# Altium schematic symbol library SCH - POWER - MODULE - A1215S-2WR2.SchLib: 1 symbol
Pins are listed as number, name and electrical type; pins without a type are passive.

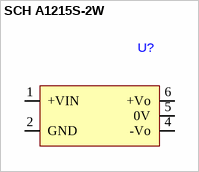
[diagram p0: symbol SCH A1215S-2W]

## SCH A1215S-2W
designator U?
pins: 1 +VIN, 2 GND, 4 -Vo, 5 0V, 6 +Vo